# Altium schematic symbol library tik_handheld_schlib.SchLib: 82 symbols
Pins are listed as number, name and electrical type; pins without a type are passive.

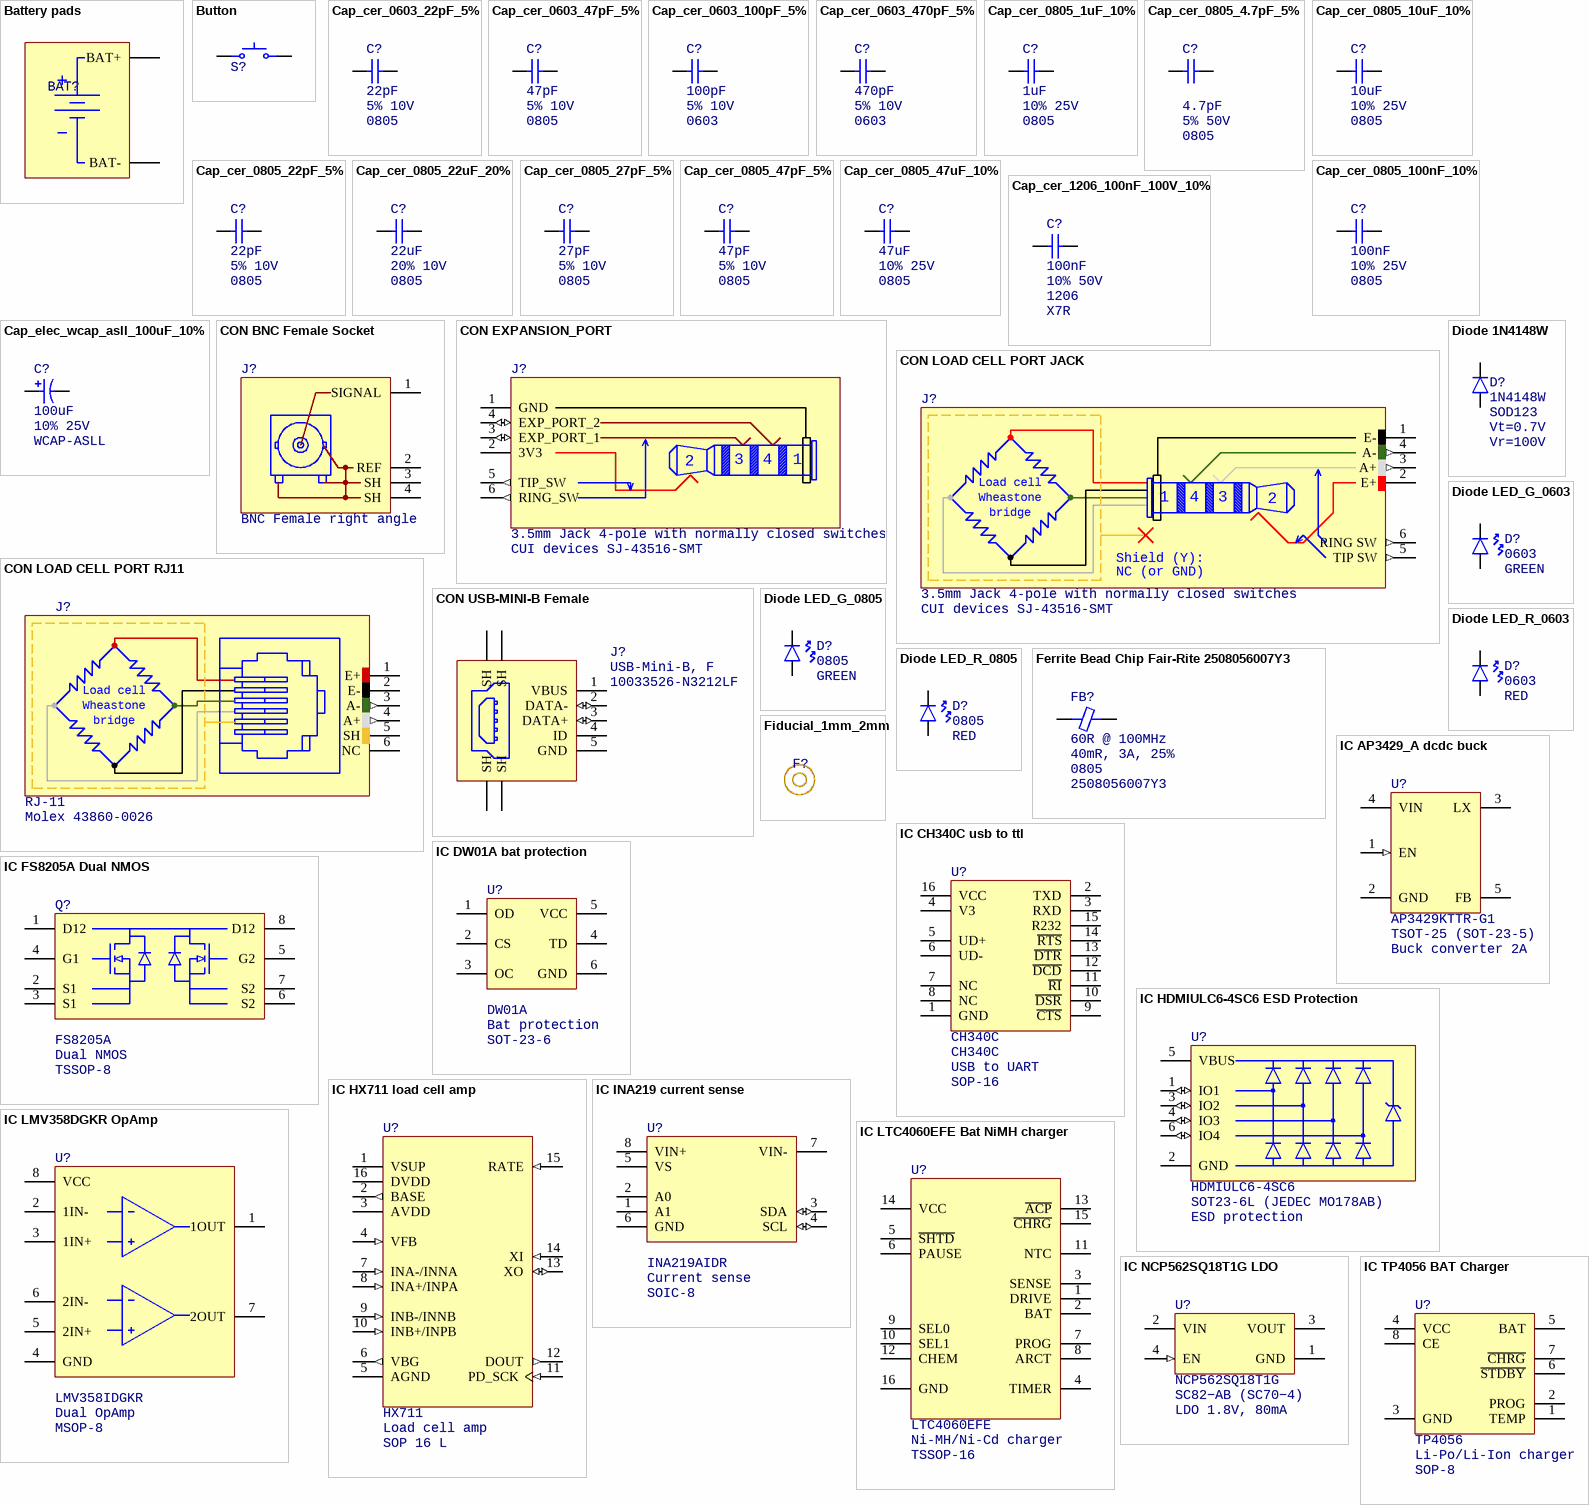
[diagram p0: symbols Battery pads to IC TP4056 BAT Charger]

## Battery pads
designator BAT?  (value not drawn)  (no BOM)
Generic 2-Pad battery connector
footprint BATTERY_PADS
pins: 1 BAT-, 2 BAT+

## Button
designator S?  (value not drawn)
Generic 2 pin button; PackageDescription: SMD 2-pin
footprint button generic (SMD Push Buttom Tact)
pins: 1, 2

## Cap_cer_0603_22pF_5%
designator C?  value 22pF  Tolerance: 5% 10V  PackageDescription: 0805
Ceramic cap size 0805
footprint CAP 0603_1608 (Chip Capacitor, 2-Leads, Body 1.60x0.80mm, IPC Medium Density)
pins: 1, 2

## Cap_cer_0603_47pF_5%
designator C?  value 47pF  Tolerance: 5% 10V  PackageDescription: 0805
Ceramic cap size 0805
footprint CAP 0603_1608 (Chip Capacitor, 2-Leads, Body 1.60x0.80mm, IPC Medium Density)
pins: 1, 2

## Cap_cer_0603_100pF_5%
designator C?  value 100pF  Tolerance: 5% 10V  PackageDescription: 0603
Ceramic cap size 0805
footprint CAP 0603_1608 (Chip Capacitor, 2-Leads, Body 1.60x0.80mm, IPC Medium Density)
pins: 1, 2

## Cap_cer_0603_470pF_5%
designator C?  value 470pF  Tolerance: 5% 10V  PackageDescription: 0603
Ceramic cap size 0805
footprint CAP 0603_1608 (Chip Capacitor, 2-Leads, Body 1.60x0.80mm, IPC Medium Density)
pins: 1, 2

## Cap_cer_0805_1uF_10%
designator C?, comment value 1uF  Tolerance: 10% 25V  PackageDescription: 0805  (hidden comment: Cap_cer_0805)
Ceramic cap size 0805
footprint CAP 0805_2012 (Chip Capacitor, 2-Leads, Body 2.00x1.20mm, IPC Medium Density)
pins: 1, 2

## Cap_cer_0805_4.7pF_5%
designator C?  value 4.7pF  Tolerance: 5% 50V  PackageDescription: 0805
Ceramic cap size 0805 / GRM1555C1H4R7BA01D; Part: GRM1555C1H4R7BA01D
footprint CAP 0805_2012 (Chip Capacitor, 2-Leads, Body 2.00x1.20mm, IPC Medium Density)
pins: 1, 2

## Cap_cer_0805_10uF_10%
designator C?, comment value 10uF  Tolerance: 10% 25V  PackageDescription: 0805  (hidden comment: Cap_cer_0805)
Ceramic cap size 0805
footprint CAP 0805_2012 (Chip Capacitor, 2-Leads, Body 2.00x1.20mm, IPC Medium Density)
pins: 1, 2

## Cap_cer_0805_22pF_5%
designator C?, comment value 22pF  Tolerance: 5% 10V  PackageDescription: 0805  (hidden comment: Cap_cer_0805)
Ceramic cap size 0805
footprint CAP 0805_2012 (Chip Capacitor, 2-Leads, Body 2.00x1.20mm, IPC Medium Density)
pins: 1, 2

## Cap_cer_0805_22uF_20%
designator C?, comment value 22uF  Tolerance: 20% 10V  PackageDescription: 0805  (hidden comment: Cap_cer_0805)
Ceramic cap size 0805 CC0805MKX5R6BB226 Yageo MLCC 22uF 10V 20% X5R
footprint CAP 0805_2012 (Chip Capacitor, 2-Leads, Body 2.00x1.20mm, IPC Medium Density)
pins: 1, 2

## Cap_cer_0805_27pF_5%
designator C?, comment value 27pF  Tolerance: 5% 10V  PackageDescription: 0805  (hidden comment: Cap_cer_0805)
Ceramic cap size 0805
footprint CAP 0805_2012 (Chip Capacitor, 2-Leads, Body 2.00x1.20mm, IPC Medium Density)
pins: 1, 2

## Cap_cer_0805_47pF_5%
designator C?, comment value 47pF  Tolerance: 5% 10V  PackageDescription: 0805  (hidden comment: Cap_cer_0805)
Ceramic cap size 0805
footprint CAP 0805_2012 (Chip Capacitor, 2-Leads, Body 2.00x1.20mm, IPC Medium Density)
pins: 1, 2

## Cap_cer_0805_47uF_10%
designator C?, comment value 47uF  Tolerance: 10% 25V  PackageDescription: 0805  (hidden comment: Cap_cer_0805)
Ceramic cap size 0805
footprint CAP 0805_2012 (Chip Capacitor, 2-Leads, Body 2.00x1.20mm, IPC Medium Density)
pins: 1, 2

## Cap_cer_0805_100nF_10%
designator C?, comment value 100nF  Tolerance: 10% 25V  PackageDescription: 0805  (hidden comment: Cap_cer_0805)
Ceramic cap size 0805
footprint CAP 0805_2012 (Chip Capacitor, 2-Leads, Body 2.00x1.20mm, IPC Medium Density)
pins: 1, 2

## Cap_cer_1206_100nF_100V_10%
designator C?, comment value 100nF  Tolerance: 10% 50V  PackageDescription: 1206  Type: X7R  (hidden comment: Cap_cer_0805)
Ceramic cap size 1206 C1206C104K1RACTU
footprint CAP 1206_3216 (Chip Capacitor, 2-Leads, Body 3.25x1.60mm, IPC Medium Density)
pins: 1, 2

## Cap_elec_wcap_asll_100uF_10%
designator C?, comment value 100uF  Tolerance: 10% 25V  PackageDescription: WCAP-ASLL  (hidden comment: Cap_pol_wcap)
Electrolytic capacitor packaging WCAP-ASLL for SMD mounting
footprint CAP ALSMD ELEC 8.3MM H10.6MM (Aluminum SMD Electrolytic Capacitor, 8.30mm Land Size, 8.00mm Diameter, 10.60mm Height, 10.00mm Maximum Leads Span)
pins: 1, 2

## CON BNC Female Socket
designator J?, comment Type: BNC Female right angle  (hidden comment: BNC-Female)
BNC coaxial female connector
footprint BNC RIGHT ANGLE (BNC JACK RIGHT ANGLE PCB MOUNT ZINC DIE CAST)
pins: 1 SIGNAL, 2 REF, 3 SH, 4 SH

## CON EXPANSION_PORT
designator J?, comment Part: CUI devices SJ-43516-SMT  (hidden comment: 3.5mm Jack 4-pole with normally closed switches)
Desc: 3.5mm Jack 4-pole with normally closed switches
footprint JACK_6_CONN_CUI_DEVICES_SJ-43516-SMT
pins: 1 GND (power), 2 3V3 (power), 3 EXP_PORT_1 (io), 4 EXP_PORT_2 (io), 5 TIP_SW (out), 6 RING_SW (out)

## CON LOAD CELL PORT JACK
designator J?, comment Part: CUI devices SJ-43516-SMT  (hidden comment: 3.5mm Jack 4-pole with normally closed switches)
PackageDescription: 3.5mm Jack 4-pole with normally closed switches
footprint JACK_6_CONN_CUI_DEVICES_SJ-43516-SMT
pins: 1 E- (power), 2 E+ (power), 3 A+ (out), 4 A- (out), 5 TIP SW (out), 6 RING SW (out)
text: Load cell; Wheastone; bridge; Shield (Y):; NC (or GND)

## CON LOAD CELL PORT RJ11
designator J?  PackageDescription: RJ-11  Part: Molex 43860-0026  (hidden comment: *)
Connection port for a 4-wire load cell; Desc: *
pins: 1 E+ (power), 2 E- (power), 3 A- (out), 4 A+ (out), 5 SH, 6 NC
text: Load cell; Wheastone; bridge

## CON USB-MINI-B Female
designator J?, comment PackageDescription: USB-Mini-B, F  Part: 10033526-N3212LF  (hidden comment: USB-MINI-B Female)
USB-MINI-B Female, Manufacturer PN/ID: 10033526-N3212LF
footprint FCI USB Type B Mini 10033526-N3212LF (USB 2.0 Type B Mini)
pins: 1 VBUS (power), 2 DATA- (io), 3 DATA+ (io), 4 ID, 5 GND (power), 6 SH, 7 SH, 8 SH, 9 SH

## Diode 1N4148W
designator D?  Part: 1N4148W  PackageDescription: SOD123  ForwardVoltage: Vt=0.7V  ReverseVoltage: Vr=100V
SURFACE MOUNT FAST SWITCHING DIODE; Type: Rectifier, General purpose
footprint SOD123F 1N4148W (SODFL, 2-Leads, Body 1.60x3.50mm, IPC Medium Density)
pins: 1, 2

## Diode LED_G_0603
designator D?  PackageDescription: 0603  Type: GREEN
Low power LED color Green
footprint LED 0603_1608 GREEN (Chip Diode, 2-Leads, Body 1.60x0.80mm, IPC Medium Density)
pins: 1, 2

## Diode LED_G_0805
designator D?  PackageDescription: 0805  Type: GREEN
Low power LED color Green
footprint LED 0805_2012 GREEN (Chip Diode, 2-Leads, Body 2.00x1.25mm, IPC Medium Density)
pins: 1, 2

## Diode LED_R_0603
designator D?  PackageDescription: 0603  Type: RED
Low power LED color Red
footprint LED 0603_1608 RED (Chip Diode, 2-Leads, Body 1.60x0.80mm, IPC Medium Density)
pins: 1, 2

## Diode LED_R_0805
designator D?  PackageDescription: 0805  Type: RED
Low power LED color Red
footprint LED 0805_2012 RED (Chip Diode, 2-Leads, Body 2.00x1.25mm, IPC Medium Density)
pins: 1, 2

## Ferrite Bead Chip Fair-Rite 2508056007Y3
designator FB?  value 40mR, 3A, 25%  Desc: 60R @ 100MHz  PackageDescription: 0805  Part: 2508056007Y3  (hidden comment: *)
0805, 60Ω, 3A, 25% SMT
footprint FER 0805_2012 (Chip Ferrite, 2-Leads, Body 2.00x1.20mm, IPC Medium Density)
pins: 1, 2

## Fiducial_1mm_2mm
designator F?  (value not drawn)  (no BOM)
Fiducial 1mm pad, 2mm solder resist
footprint FIDUCIAL_1MM_2MM

## IC AP3429_A dcdc buck
designator U?, comment Part: AP3429KTTR-G1  PackageDescription: TSOT-25 (SOT-23-5)  Type: Buck converter 2A  (hidden comment: AP3429_A)
1.0MHZ, 2A STEP-DOWN DC-DC BUCK CONVERTER, with latch-off protection
footprint SOT-23-5 AP3429 (SOT23, 5-Leads, Body 3.00x2.85mm, Pitch 0.95mm, IPC Medium Density)
pins: 1 EN (in), 2 GND (power), 3 LX (power), 4 VIN (power), 5 FB (power)

## IC CH340C usb to ttl
designator U?, comment CH340C  Type: USB to UART  PackageDescription: SOP-16
USB to serial chip CH340C, integrated oscillator.; Part: CH340C
footprint SSOP-16 150mil CH340C (SOP, 16-Leads, Body 9.90x3.90mm, Pitch 1.27mm, IPC Medium Density)
pins: 1 GND (power), 2 TXD (oc), 3 RXD (oc), 4 V3 (power), 5 UD+ (oc), 6 UD- (power), 7 NC (power), 8 NC (oc), 9 ~{CTS} (oc), 10 ~{DSR} (oc), 11 ~{RI} (oc), 12 ~{DCD} (oc), 13 ~{DTR} (oc), 14 ~{RTS} (oc), 15 R232 (oc), 16 VCC (power)

## IC DW01A bat protection
designator U?, comment Type: Bat protection  PackageDescription: SOT-23-6  (hidden comment: DW01A)
DW01A One cell Li-Po/Li-ion Battery protection IC; Part: DW01A
footprint SOT-23-6 DW01A (SOT23, 6-Leads, Body 2.90x2.80mm, Pitch 0.95mm, IPC Medium Density)
pins: 1 OD, 2 CS, 3 OC, 4 TD, 5 VCC (power), 6 GND (power)

## IC FS8205A Dual NMOS
designator Q?, comment Type: Dual NMOS  PackageDescription: TSSOP-8  (hidden comment: FS8205A)
Dual N-channel Enhancement mode power MOSFET; ComponentLink1Description: New link; ComponentLink1URL: *; Part: FS8205A
footprint TSSOP-8 FS8205A (TSSOP, 8-Leads, Body 3.00x4.40mm, Pitch 0.65mm, IPC Medium Density)
pins: 1 D12, 2 S1, 3 S1, 4 G1, 5 G2, 6 S2, 7 S2, 8 D12

## IC HDMIULC6-4SC6 ESD Protection
designator U?, comment PackageDescription: SOT23-6L (JEDEC MO178AB)  Type: ESD protection  (hidden comment: HDMIULC6-4SC6)
Part: HDMIULC6-4SC6
pins: 1 IO1 (io), 2 GND (power), 3 IO2 (io), 4 IO3 (io), 5 VBUS (power), 6 IO4 (io)

## IC HX711 load cell amp
designator U?  Part: HX711  Desc: Load cell amp  PackageDescription: SOP 16 L  (hidden comment: *)
HX711 load cell amplifier
footprint SOP-16 L HX711 (SOP, 16-Leads, Body 9.90x3.90mm, Pitch 1.27mm, IPC Medium Density)
pins: 1 VSUP (power), 2 BASE (out), 3 AVDD (power), 4 VFB (in), 5 AGND (power), 6 VBG (out), 7 INA-/INNA (in), 8 INA+/INPA (in), 9 INB-/INNB (in), 10 INB+/INPB (in), 11 PD_SCK (in), 12 DOUT (out), 13 XO (io), 14 XI (in), 15 RATE (in), 16 DVDD (power)

## IC INA219 current sense
designator U?, comment Part: INA219AIDR  Type: Current sense  PackageDescription: SOIC-8  (hidden comment: INA219)
Zero-Drift, Bi-Directional CURRENT/POWER MONITOR with I2C. SOIC-8 (D) Package
footprint SOIC-8-D0008A INA219D (Package SOIC-8, 8-Leades, 4.90 x 3.89 mm Body , Pitch 1.27 mm)
pins: 1 A1, 2 A0, 3 SDA (io), 4 SCL (io), 5 VS (power), 6 GND (power), 7 VIN-, 8 VIN+

## IC LMV358DGKR OpAmp
designator U?  Part: LMV358IDGKR  Type: Dual OpAmp  PackageDescription: MSOP-8  (hidden comment: *)
LMV358IDGKR Dual OpAmp; low voltage rail to rail opamp; 2.7V to 5V Vss; ESD protection; MSOP-8 Package.
footprint VSSOP-8 DGK (MSOP-8) LMV358 (TSOP, 8-Leads, Body 3.00x3.00mm, Pitch 0.65mm, IPC Medium Density)
pins: 1 1OUT, 2 1IN-, 3 1IN+, 4 GND (power), 5 2IN+, 6 2IN-, 7 2OUT, 8 VCC (power)

## IC LTC4060EFE Bat NiMH charger
designator U?  Desc: Ni-MH/Ni-Cd charger  PackageDescription: TSSOP-16  (hidden comment: *)
LTC4060EFE; Part: LTC4060EFE
footprint TSSOP-16 LTC4060EFE (TSOP, 16-Leads, Body 5.00x4.40mm, Pitch 0.65mm, Thermal Pad)
pins: 1 DRIVE, 2 BAT, 3 SENSE, 4 TIMER, 5 ~{SHTD}, 6 PAUSE, 7 PROG, 8 ARCT, 9 SEL0, 10 SEL1, 11 NTC, 12 CHEM, 13 ~{ACP}, 14 VCC, 15 ~{CHRG}, 16 GND

## IC NCP562SQ18T1G LDO
designator U?  value LDO 1.8V, 80mA  Part: NCP562SQ18T1G  PackageDescription: SC82−AB (SC70−4)  (hidden comment: *)
Fixed output lowdropout linear regulator. / 1.8 V 80 mA; Type: LDO
footprint SC70-5 LT SC82-AB NCP562 (SC70, SC82-AB, 4-Leads, Body 2.03x2.10mm, Pitch 0.65mm, IPC Medium Density)
pins: 1 GND, 2 VIN (power), 3 VOUT (power), 4 EN (in)

## IC TP4056 BAT Charger
designator U?, comment Type: Li-Po/Li-Ion charger  PackageDescription: SOP-8  (hidden comment: TP4056)
1A Standalone Linear Li-lon Battery Charger with Thermal Regulation in SOP-8; Part: TP4056
footprint SOIC-8-D0008A TP4056 (Package SOIC-8, 8-Leades, 4.90 x 3.89 mm Body , Pitch 1.27 mm)
pins: 1 TEMP, 2 PROG, 3 GND (power), 4 VCC (power), 5 BAT (power), 6 ~{STDBY} (oc), 7 ~{CHRG} (oc), 8 CE

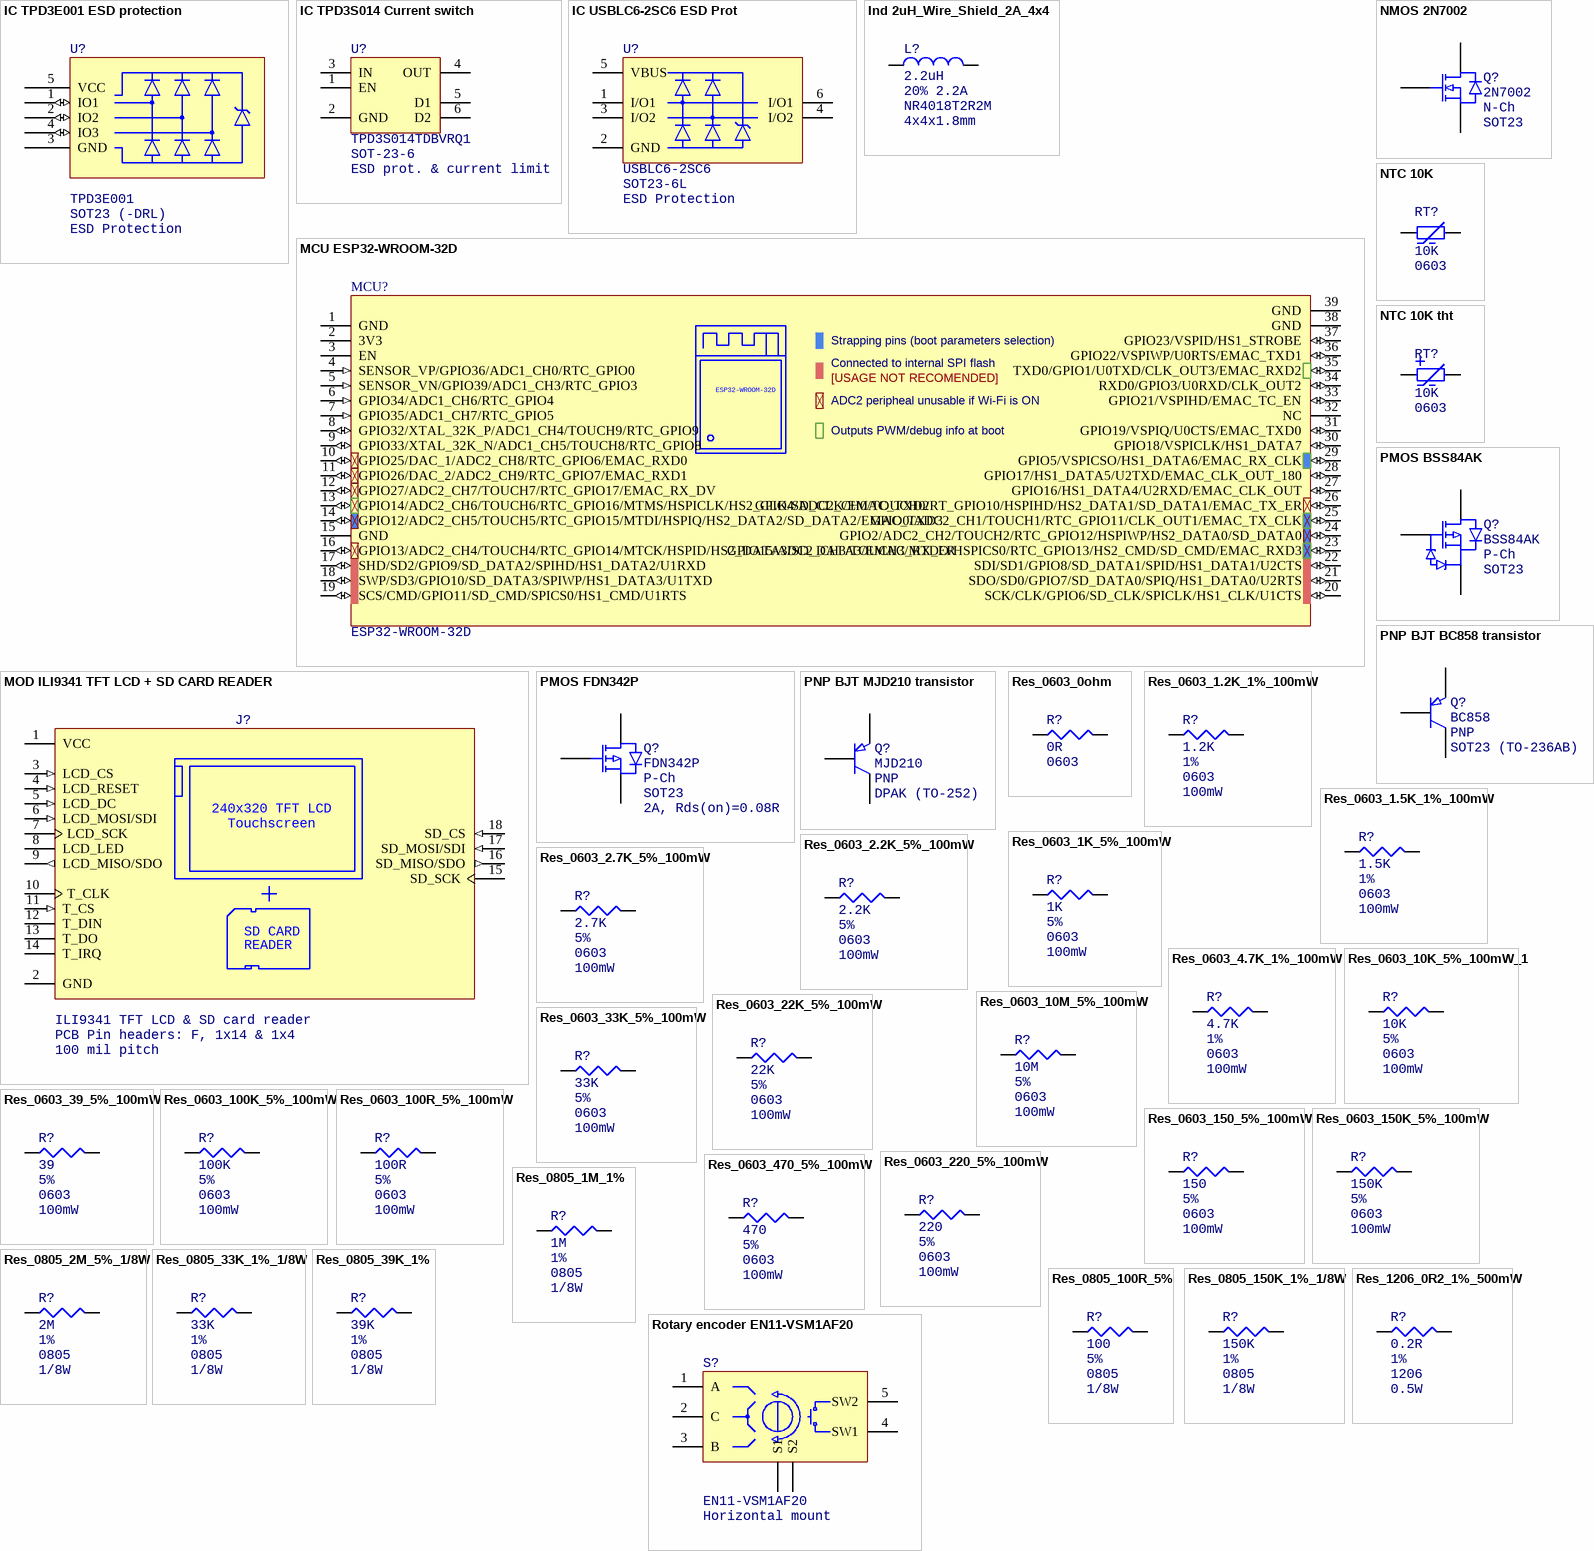
[diagram p1: symbols IC TPD3E001 ESD protection to Rotary encoder EN11-VSM1AF20]

## IC TPD3E001 ESD protection
designator U?, comment PackageDescription: SOT23 (-DRL)  Type: ESD Protection  (hidden comment: TPD3E001)
TPD3E001 Low-Capacitance 3-Channel ESD-Protection for High-Speed Data Interfaces; Part: TPD3E001
pins: 1 IO1 (io), 2 IO2 (io), 3 GND (power), 4 IO3 (io), 5 VCC (power)

## IC TPD3S014 Current switch
designator U?  Part: TPD3S014TDBVRQ1  PackageDescription: SOT-23-6  Desc: ESD prot. & current limit  (hidden comment: *)
TPD3S014TDBVRQ1 ESD prot. & current limit
footprint TSOT-23-6 TPD3S014TDBVRQ1 (TSOT23, 6-Leads, Body 2.90x2.80mm, Pitch 0.95mm, IPC High Density)
pins: 1 EN, 2 GND, 3 IN, 4 OUT, 5 D1, 6 D2

## IC USBLC6-2SC6 ESD Prot
designator U?  Part: USBLC6-2SC6  PackageDescription: SOT23-6L  Type: ESD Protection
Very low capacitance ESD protection; Value: *
footprint SOT-23-6L USBLC6-2SC6 (SOT23, 6-Leads, Body 2.90x2.80mm, Pitch 0.95mm, IPC Medium Density)
pins: 1 I/O1, 2 GND, 3 I/O2, 4 I/O2, 5 VBUS, 6 I/O1

## Ind 2uH_Wire_Shield_2A_4x4
designator L?  value 2.2uH  Tolerance: 20% 2.2A  Part: NR4018T2R2M  PackageDescription: 4x4x1.8mm  (hidden comment: *)
Shielded Power Inductor 2.2 uH 20% 2.2 A 50.4 mohms 3.11 A (sat) 60MHz / 4018: 4x4x1.8mm
footprint Inductor 4x4mm (NR4018T2R2M Taiyo Yuden)
pins: 1, 2

## MCU ESP32-WROOM-32D
designator MCU?  Part: ESP32-WROOM-32D  (hidden comment: *)
- Transceiver; 802.11 b/g/n _Wi-Fi, WiFi, WLAN_, Bluetooth Smart Ready 4.x Dual Mode For Use With ESP-WROOM-32; MF: Espressif Systems; Package: None; Price: None; Availability: Unavailable; MP: ESP32-WROOM-32D; SnapEDA_Link: https://www.snapeda.com/parts/ESP32-DEVKITC-32D/Espressif%20Systems/view-part/2777395/?ref=snap; Value: *
footprint MODULE_ESP32-WROOM-32
pins: 1 GND (power), 2 3V3 (power), 3 EN (power) "Module-Enable Signal. Active High", 4 SENSOR_VP/GPIO36/ADC1_CH0/RTC_GPIO0 (in), 5 SENSOR_VN/GPIO39/ADC1_CH3/RTC_GPIO3 (in), 6 GPIO34/ADC1_CH6/RTC_GPIO4 (in), 7 GPIO35/ADC1_CH7/RTC_GPIO5 (in), 8 GPIO32/XTAL_32K_P/ADC1_CH4/TOUCH9/RTC_GPIO9 (io), 9 GPIO33/XTAL_32K_N/ADC1_CH5/TOUCH8/RTC_GPIO8 (io), 10 GPIO25/DAC_1/ADC2_CH8/RTC_GPIO6/EMAC_RXD0 (io), 11 GPIO26/DAC_2/ADC2_CH9/RTC_GPIO7/EMAC_RXD1 (io), 12 GPIO27/ADC2_CH7/TOUCH7/RTC_GPIO17/EMAC_RX_DV (io), 13 GPIO14/ADC2_CH6/TOUCH6/RTC_GPIO16/MTMS/HSPICLK/HS2_CLK/SD_CLK/EMAC_TXD2 (io), 14 GPIO12/ADC2_CH5/TOUCH5/RTC_GPIO15/MTDI/HSPIQ/HS2_DATA2/SD_DATA2/EMAC_TXD3 (io), 15 GND (power), 16 GPIO13/ADC2_CH4/TOUCH4/RTC_GPIO14/MTCK/HSPID/HS2_DATA3/SD_DATA3/EMAC_RX_ER (io), 17 SHD/SD2/GPIO9/SD_DATA2/SPIHD/HS1_DATA2/U1RXD (io), 18 SWP/SD3/GPIO10/SD_DATA3/SPIWP/HS1_DATA3/U1TXD (io), 19 SCS/CMD/GPIO11/SD_CMD/SPICS0/HS1_CMD/U1RTS (io), 20 SCK/CLK/GPIO6/SD_CLK/SPICLK/HS1_CLK/U1CTS (io), 21 SDO/SD0/GPIO7/SD_DATA0/SPIQ/HS1_DATA0/U2RTS (io), 22 SDI/SD1/GPIO8/SD_DATA1/SPID/HS1_DATA1/U2CTS (io), 23 GPIO15/ADC2_CH3/TOUCH3/MTDO/HSPICS0/RTC_GPIO13/HS2_CMD/SD_CMD/EMAC_RXD3 (io), 24 GPIO2/ADC2_CH2/TOUCH2/RTC_GPIO12/HSPIWP/HS2_DATA0/SD_DATA0 (io), 25 GPIO0/ADC2_CH1/TOUCH1/RTC_GPIO11/CLK_OUT1/EMAC_TX_CLK (io), 26 GPIO4/ADC2_CH0/TOUCH0/RT_GPIO10/HSPIHD/HS2_DATA1/SD_DATA1/EMAC_TX_ER (io), 27 GPIO16/HS1_DATA4/U2RXD/EMAC_CLK_OUT (io), 28 GPIO17/HS1_DATA5/U2TXD/EMAC_CLK_OUT_180 (io), 29 GPIO5/VSPICSO/HS1_DATA6/EMAC_RX_CLK (io), 30 GPIO18/VSPICLK/HS1_DATA7 (io), 31 GPIO19/VSPIQ/U0CTS/EMAC_TXD0 (io), 32 NC "NOT CONNECTED", 33 GPIO21/VSPIHD/EMAC_TC_EN (io), 34 RXD0/GPIO3/U0RXD/CLK_OUT2 (io), 35 TXD0/GPIO1/U0TXD/CLK_OUT3/EMAC_RXD2 (io), 36 GPIO22/VSPIWP/U0RTS/EMAC_TXD1 (io), 37 GPIO23/VSPID/HS1_STROBE (io), 38 GND (power), 39 GND (power)
text: Strapping pins (boot parameters selection); Connected to internal SPI flash; [USAGE NOT RECOMENDED]; ADC2 peripheal unusable if Wi-Fi is ON; Outputs PWM/debug info at boot

## MOD ILI9341 TFT LCD + SD CARD READER
designator J?, comment Part: ILI9341 TFT LCD & SD card reader  Type: PCB Pin headers: F, 1x14 & 1x4  PackageDescription: 100 mil pitch  (hidden comment: ILI9341 TFT LCD)
ILI9341 TFT LCD Jumper pin headers., plus SD card reader pins
footprint ILI9341 2.8" TFT LCD + SD CARD
pins: 1 VCC (power), 2 GND (power), 3 LCD_CS (in), 4 LCD_RESET (in), 5 LCD_DC (in), 6 LCD_MOSI/SDI (in), 7 LCD_SCK, 8 LCD_LED (power), 9 LCD_MISO/SDO (out), 10 T_CLK, 11 T_CS (in), 12 T_DIN, 13 T_DO, 14 T_IRQ, 15 SD_SCK, 16 SD_MISO/SDO (out), 17 SD_MOSI/SDI (in), 18 SD_CS (in)
text: 240x320 TFT LCD; Touchscreen; SD CARD; READER

## NMOS 2N7002
designator Q?  Part: 2N7002  Type: N-Ch  PackageDescription: SOT23  (hidden comment: *)
60 V, 300 mA N-channel Trench MOSFET; Value: *
footprint SOT-23-3 TO-236AB 2N7002 (SOT23, 3-Leads, Body 2.90x2.40mm, Pitch 0.95mm, IPC Medium Density)
pins: 1 G, 2 S, 3 D

## NTC 10K
designator RT?  value 10K  PackageDescription: 0603  (hidden comment: *)
NTC THERMISTOR 10K 0603
footprint NTC 0603_1608 (NTC Thermistor, 2-Leads, Body 1.60x0.80mm, IPC Medium Density)
pins: 1, 2

## NTC 10K tht
designator RT?  value 10K  PackageDescription: 0603  (hidden comment: *)
NTC THERMISTOR 10K for solding a cable from the battery NTC
footprint NTC THT ver (NTC Thermistor, 2-Leads, Body 1.60x0.80mm, IPC Medium Density)
pins: 1, 2

## PMOS BSS84AK
designator Q?  Part: BSS84AK  Type: P-Ch  PackageDescription: SOT23  (hidden comment: *)
PMOS BSS84AK; Value: *
footprint SOT-23-3 TO-236AB 2N7002 (SOT23, 3-Leads, Body 2.90x2.40mm, Pitch 0.95mm, IPC Medium Density)
pins: 1 G, 2 S, 3 D

## PMOS FDN342P
designator Q?  Part: FDN342P  Type: P-Ch  PackageDescription: SOT23  Desc: 2A, Rds(on)=0.08R  (hidden comment: *)
P-Channel, POWERTRENCH, R DS(ON) = 0.08 W @ VGS = −4.5 V; Value: *
footprint SOT-23-3 TO-236AB 2N7002 (SOT23, 3-Leads, Body 2.90x2.40mm, Pitch 0.95mm, IPC Medium Density)
pins: 1 G, 2 S, 3 D

## PNP BJT BC858 transistor
designator Q?  Part: BC858  Type: PNP  PackageDescription: SOT23 (TO-236AB)  (hidden comment: *)
65 V, 100 mA PNP general-purpose transistor
footprint SOT-23-3 TO-236AB BC858 (SOT23, 3-Leads, Body 2.90x2.40mm, Pitch 0.95mm, IPC Medium Density)
pins: 1 B, 2 E, 3 C

## PNP BJT MJD210 transistor
designator Q?  Part: MJD210  Type: PNP  PackageDescription: DPAK (TO-252)  (hidden comment: *)
MJD210 PNP BJT transistor DPAK (decawatt) 5A dc
footprint DPAK TO-252 MJD210
pins: 1 B, 3 E, 4 C

## Res_0603_0ohm
designator R?  value 0R  PackageDescription: 0603  (hidden comment: *)
Res size 0603 SMD mounting, zero-ohm 0R Yageo RC0603JR-070RL
footprint RES 0603_1608 (Chip Resistor, 2-Leads, Body 1.60x0.80mm, IPC Medium Density)
pins: 1, 2

## Res_0603_1.2K_1%_100mW
designator R?  value 1.2K  Tolerance: 1%  PackageDescription: 0603  PowerDisipated: 100mW  (hidden comment: *)
Res size 0603 SMD mounting, low power
footprint RES 0603_1608 (Chip Resistor, 2-Leads, Body 1.60x0.80mm, IPC Medium Density)
pins: 1, 2

## Res_0603_1.5K_1%_100mW
designator R?  value 1.5K  Tolerance: 1%  PackageDescription: 0603  PowerDisipated: 100mW  (hidden comment: *)
Res size 0603 SMD mounting, low power
footprint RES 0603_1608 (Chip Resistor, 2-Leads, Body 1.60x0.80mm, IPC Medium Density)
pins: 1, 2

## Res_0603_1K_5%_100mW
designator R?  value 1K  Tolerance: 5%  PackageDescription: 0603  PowerDisipated: 100mW  (hidden comment: *)
Res size 0603 SMD mounting, low power
footprint RES 0603_1608 (Chip Resistor, 2-Leads, Body 1.60x0.80mm, IPC Medium Density)
pins: 1, 2

## Res_0603_2.2K_5%_100mW
designator R?  value 2.2K  Tolerance: 5%  PackageDescription: 0603  PowerDisipated: 100mW  (hidden comment: *)
Res size 0603 SMD mounting, low power
footprint RES 0603_1608 (Chip Resistor, 2-Leads, Body 1.60x0.80mm, IPC Medium Density)
pins: 1, 2

## Res_0603_2.7K_5%_100mW
designator R?  value 2.7K  Tolerance: 5%  PackageDescription: 0603  PowerDisipated: 100mW  (hidden comment: *)
Res size 0603 SMD mounting, low power
footprint RES 0603_1608 (Chip Resistor, 2-Leads, Body 1.60x0.80mm, IPC Medium Density)
pins: 1, 2

## Res_0603_4.7K_1%_100mW
designator R?  value 4.7K  Tolerance: 1%  PackageDescription: 0603  PowerDisipated: 100mW  (hidden comment: *)
Res size 0603 SMD mounting, low power
footprint RES 0603_1608 (Chip Resistor, 2-Leads, Body 1.60x0.80mm, IPC Medium Density)
pins: 1, 2

## Res_0603_10K_5%_100mW_1
designator R?  value 10K  Tolerance: 5%  PackageDescription: 0603  PowerDisipated: 100mW  (hidden comment: *)
Res size 0603 SMD mounting, low power
footprint RES 0603_1608 (Chip Resistor, 2-Leads, Body 1.60x0.80mm, IPC Medium Density)
pins: 1, 2

## Res_0603_10M_5%_100mW
designator R?  value 10M  Tolerance: 5%  PackageDescription: 0603  PowerDisipated: 100mW  (hidden comment: *)
Res size 0603 SMD mounting, low power
footprint RES 0603_1608 (Chip Resistor, 2-Leads, Body 1.60x0.80mm, IPC Medium Density)
pins: 1, 2

## Res_0603_22K_5%_100mW
designator R?  value 22K  Tolerance: 5%  PackageDescription: 0603  PowerDisipated: 100mW  (hidden comment: *)
Res size 0603 SMD mounting, low power
footprint RES 0603_1608 (Chip Resistor, 2-Leads, Body 1.60x0.80mm, IPC Medium Density)
pins: 1, 2

## Res_0603_33K_5%_100mW
designator R?  value 33K  Tolerance: 5%  PackageDescription: 0603  PowerDisipated: 100mW  (hidden comment: *)
Res size 0603 SMD mounting, low power
footprint RES 0603_1608 (Chip Resistor, 2-Leads, Body 1.60x0.80mm, IPC Medium Density)
pins: 1, 2

## Res_0603_39_5%_100mW
designator R?  value 39  Tolerance: 5%  PackageDescription: 0603  PowerDisipated: 100mW  (hidden comment: *)
Res size 0603 SMD mounting, low power
footprint RES 0603_1608 (Chip Resistor, 2-Leads, Body 1.60x0.80mm, IPC Medium Density)
pins: 1, 2

## Res_0603_100K_5%_100mW
designator R?  value 100K  Tolerance: 5%  PackageDescription: 0603  PowerDisipated: 100mW  (hidden comment: *)
Res size 0603 SMD mounting, low power
footprint RES 0603_1608 (Chip Resistor, 2-Leads, Body 1.60x0.80mm, IPC Medium Density)
pins: 1, 2

## Res_0603_100R_5%_100mW
designator R?  value 100R  Tolerance: 5%  PackageDescription: 0603  PowerDisipated: 100mW  (hidden comment: *)
Res size 0603 SMD mounting, low power
footprint RES 0603_1608 (Chip Resistor, 2-Leads, Body 1.60x0.80mm, IPC Medium Density)
pins: 1, 2

## Res_0603_150_5%_100mW
designator R?  value 150  Tolerance: 5%  PackageDescription: 0603  PowerDisipated: 100mW  (hidden comment: *)
Res size 0603 SMD mounting, low power
footprint RES 0603_1608 (Chip Resistor, 2-Leads, Body 1.60x0.80mm, IPC Medium Density)
pins: 1, 2

## Res_0603_150K_5%_100mW
designator R?  value 150K  Tolerance: 5%  PackageDescription: 0603  PowerDisipated: 100mW  (hidden comment: *)
Res size 0603 SMD mounting, low power
footprint RES 0603_1608 (Chip Resistor, 2-Leads, Body 1.60x0.80mm, IPC Medium Density)
pins: 1, 2

## Res_0603_220_5%_100mW
designator R?  value 220  Tolerance: 5%  PackageDescription: 0603  PowerDisipated: 100mW  (hidden comment: *)
Res size 0603 SMD mounting, low power
footprint RES 0603_1608 (Chip Resistor, 2-Leads, Body 1.60x0.80mm, IPC Medium Density)
pins: 1, 2

## Res_0603_470_5%_100mW
designator R?  value 470  Tolerance: 5%  PackageDescription: 0603  PowerDisipated: 100mW  (hidden comment: *)
Res size 0603 SMD mounting, low power
footprint RES 0603_1608 (Chip Resistor, 2-Leads, Body 1.60x0.80mm, IPC Medium Density)
pins: 1, 2

## Res_0805_1M_1%
designator R?, comment value 1M  Tolerance: 1%  PackageDescription: 0805  PowerDisipated: 1/8W  (hidden comment: Yageo-RC0805FR-072ML)
Res size 0805 SMD mounting, low power. / Yageo-RC0805FR-071ML
footprint RES 0805_2012 (Chip Resistor, 2-Leads, Body 2.00x1.25mm, IPC Medium Density)
pins: 1, 2

## Res_0805_2M_5%_1/8W
designator R?, comment value 2M  Tolerance: 1%  PackageDescription: 0805  PowerDisipated: 1/8W  (hidden comment: Yageo-RC0805FR-072ML)
Res size 0805 SMD mounting, low power. / Yageo-RC0805FR-072ML
footprint RES 0805_2012 (Chip Resistor, 2-Leads, Body 2.00x1.25mm, IPC Medium Density)
pins: 1, 2

## Res_0805_33K_1%_1/8W
designator R?  value 33K  Tolerance: 1%  PackageDescription: 0805  PowerDisipated: 1/8W  (hidden comment: *)
Res size 0805 SMD mounting, low power
footprint RES 0805_2012 (Chip Resistor, 2-Leads, Body 2.00x1.25mm, IPC Medium Density)
pins: 1, 2

## Res_0805_39K_1%
designator R?, comment value 39K  Tolerance: 1%  PackageDescription: 0805  PowerDisipated: 1/8W  (hidden comment: Yageo-RC0805FR-0739KL)
Res size 0805 SMD mounting, low power. / Yageo-RC0805FR-0739KL
footprint RES 0805_2012 (Chip Resistor, 2-Leads, Body 2.00x1.25mm, IPC Medium Density)
pins: 1, 2

## Res_0805_100R_5%
designator R?, comment value 100  Tolerance: 5%  PackageDescription: 0805  PowerDisipated: 1/8W  (hidden comment: RS-05K101JT)
Res size 0805 SMD mounting, low power.
footprint RES 0805_2012 (Chip Resistor, 2-Leads, Body 2.00x1.25mm, IPC Medium Density)
pins: 1, 2

## Res_0805_150K_1%_1/8W
designator R?  value 150K  Tolerance: 1%  PackageDescription: 0805  PowerDisipated: 1/8W  (hidden comment: *)
Res size 0805 SMD mounting, low power / Yageo-RC0805FR-07150KL
footprint RES 0805_2012 (Chip Resistor, 2-Leads, Body 2.00x1.25mm, IPC Medium Density)
pins: 1, 2

## Res_1206_0R2_1%_500mW
designator R?, comment value 0.2R  Tolerance: 1%  PackageDescription: 1206  PowerDisipated: 0.5W  (hidden comment: sense)
Res size 1206 SMD mounting, high power, shunt, current sense.
footprint RES 1206_3216 (Chip Resistor, 2-Leads, Body 3.13x1.55mm, IPC Medium Density)
pins: 1, 2

## Rotary encoder EN11-VSM1AF20
designator S?  Part: EN11-VSM1AF20  Type: Horizontal mount  (hidden comment: *)
TT ELECTRONICS EN11-VSM1AF20; PackageDescription: THT
footprint ROTARY ENCODER EN11-VSM1AF20
pins: 1 A, 2 C, 3 B, 4 SW1, 5 SW2, S1 "Shield", S2 "Shield"

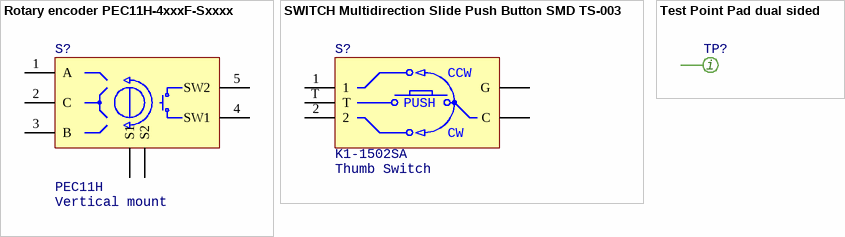
[diagram p2: symbols Rotary encoder PEC11H-4xxxF-Sxxxx to Test Point Pad dual sided]

## Rotary encoder PEC11H-4xxxF-Sxxxx
designator S?  Part: PEC11H  Type: Vertical mount  (hidden comment: *)
Bourns PEC11H-4xxxF-Sxxxx long life, pushbutton; PackageDescription: THT
footprint Rotary Encoder PEC11H-4xxxF-Sxxxx
pins: 1 A, 2 C, 3 B, 4 SW1, 5 SW2, S1 "Shield", S2 "Shield"

## SWITCH Multidirection Slide Push Button SMD TS-003
designator S?  Part: K1-1502SA  Type: Thumb Switch  (hidden comment: *)
SWITCH Multidirection Slide Push Button SMD TS-003
footprint SWITCH THUMB MULTIDIRECTION K1-1502SA-01
pins: 1, 2, C, G, T
text: CCW; PUSH; CW

## Test Point Pad dual sided
designator TP?  (no BOM)
Test point - PCB Pad dual sided
footprint TEST POINT PAD
pins: 1
text: i